# Altium footprint library PcbLib1.PcbLib: 13 footprints
Each footprint in its own frame and in the unit in brackets; x right, y up, seen from the top. Pads: shape width x height; smd on the part's side, far side on the other; paste and mask are expansions set on the pad; w line width, h text height; cw(c..) or ccw(c..) is an arc to the next point about the centre after c.
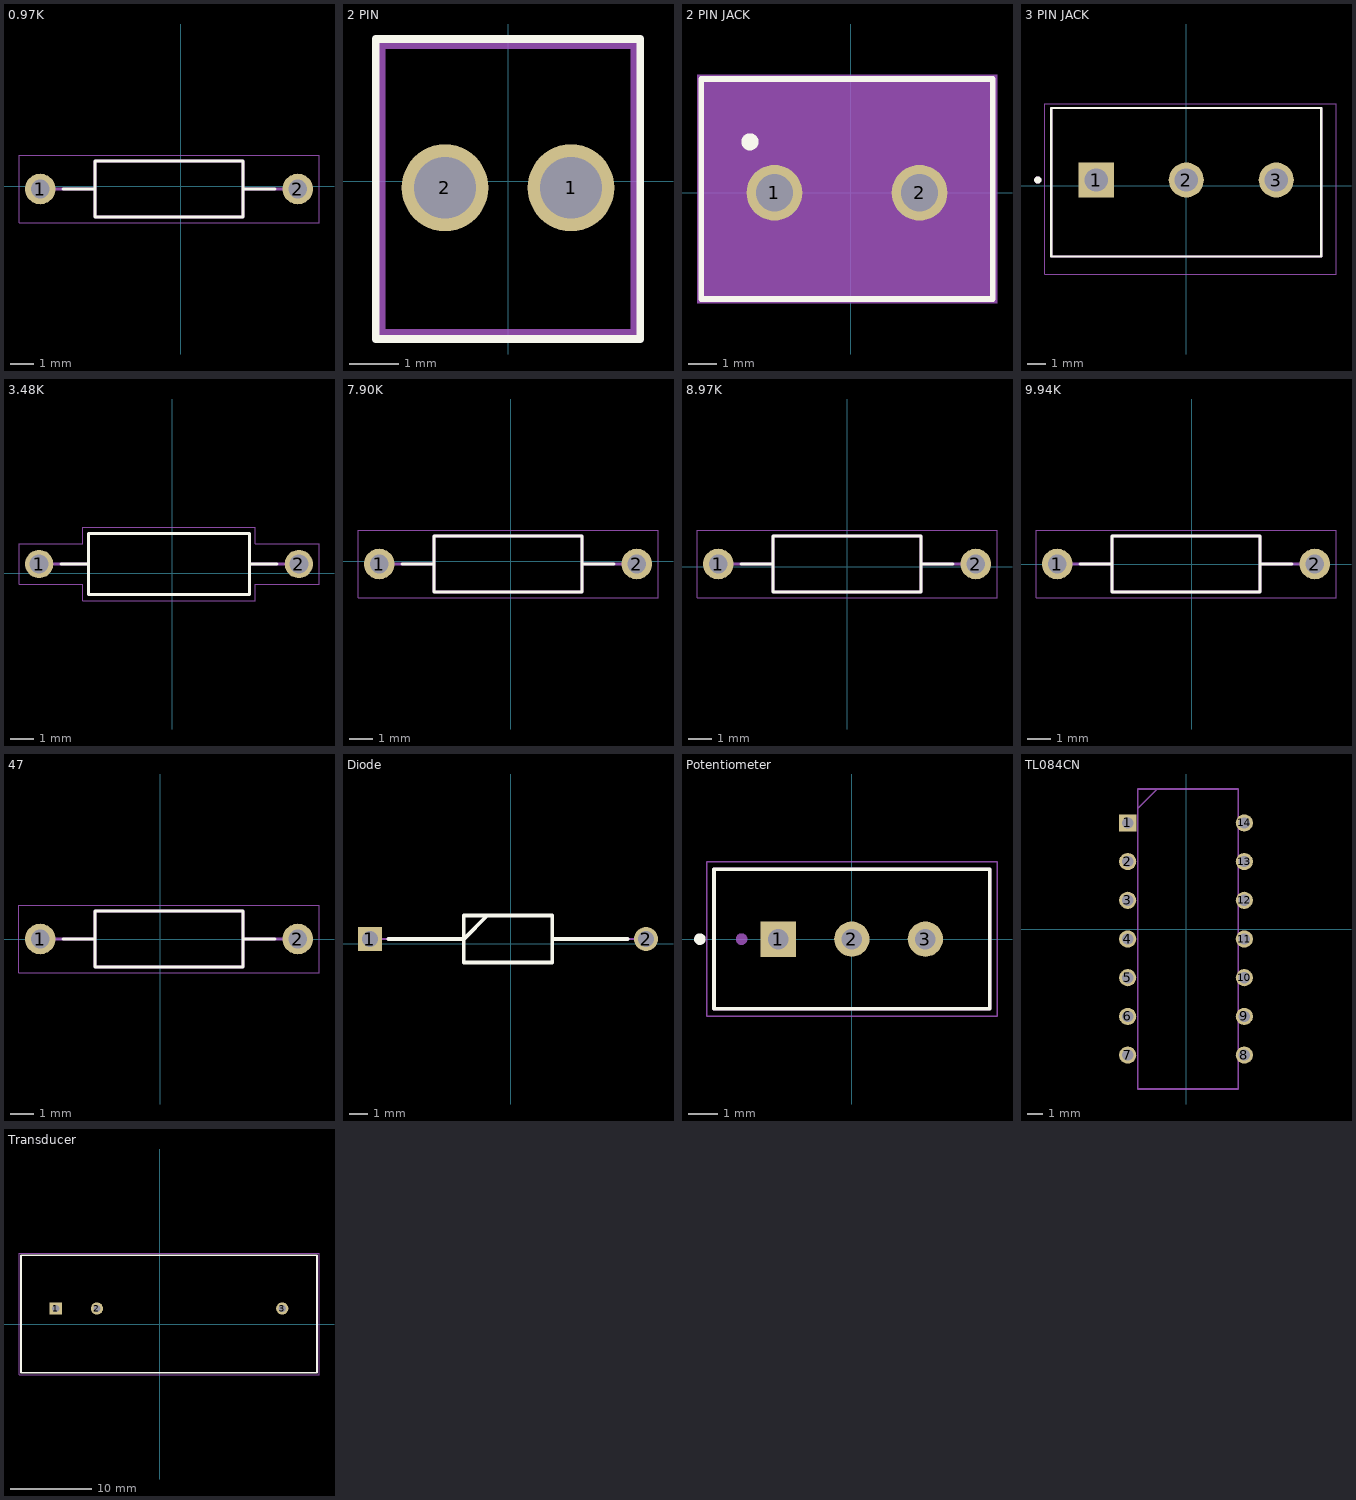
[diagram p0: the footprints below, top view; thin cyan lines are the x and y axes]

## 0.97K [mil]
pads (2):
  round 51.5 hole 31.5: 1(-236.54,-5) 2(196.54,-5)
Top Overlay:
  lines w5: -198.19,-5 -144.02,-5 ; 158.19,-5 104.02,-5 ; -144.02,-5 -144.02,-52.24 104.02,-52.24 104.02,-5 ; -144.02,-5 -144.02,42.24 104.02,42.24 104.02,-5
Mechanical 13:
  lines w5: -236.54,-5 -144.02,-5 ; 196.54,-5 104.02,-5 ; -144.02,-5 -144.02,-52.24 104.02,-52.24 104.02,-5 ; -144.02,-5 -144.02,42.24 104.02,42.24 104.02,-5
Mechanical 15:
  lines w1.97: -272.13,-62.09 232.13,-62.09 232.13,52.09 -272.13,52.09 -272.13,-62.09
3D body "step_temp.STEP": height 94.49, standoff -1061.19, extent -247.36,-52.24 207.36,42.24

## 2 PIN [mil]
pads (2):
  round 69 hole 49 mask+4.02: 1(50,-5) 2(-50,-5)
Top Overlay:
  lines w6: -105,-125 -105,113 105,113 105,-125 -105,-125
Mechanical 13:
  lines w6: -100,-120 -100,108 100,108 100,-120 -100,-120
3D body "22272021--3DModel-STEP-269445.STEP": height 460.63, standoff -140.16, extent -100,-119.96 100,108.39

## 2 PIN JACK [mm]
pads (2):
  round 1.95 hole 1.3: 1(-2.667,0) 2(2.413,0)
Top Overlay:
  circle w0.4: c-3.527,1.781 r0.1
  lines w0.2: -5.227,-3.719 4.973,-3.719 4.973,3.981 -5.227,3.981 -5.227,-3.719
Mechanical 13:
  lines w0.1: -5.127,-3.619 4.873,-3.619 4.873,3.881 -5.127,3.881 -5.127,-3.619
Mechanical 15:
  region: 5.123,-3.869 -5.377,-3.869 -5.377,4.131 5.123,4.131
3D body "step_temp.STEP": height 11.5, standoff -3.6, extent -5.127,-3.556 4.873,3.944

## 3 PIN JACK [mm]
pads (3):
  rect 1.95x1.95 / inner round 1.95 / far side rect 1.95x1.95 hole 1.3: 1(-4.993,0.313)
  round 1.95 hole 1.3: 2(0.007,0.313) 3(5.007,0.313)
Top Overlay:
  circle w0.2: c-8.243,0.313 r0.1
  lines w0.127: -7.493,-3.937 7.507,-3.937 7.507,4.313 -7.493,4.313 -7.493,-3.937
Mechanical 13:
  circle w0.2: c-8.243,0.313 r0.1
  lines w0.127: -7.493,-3.937 7.507,-3.937 7.507,4.313 -7.493,4.313 -7.493,-3.937
Mechanical 15:
  lines w0.05: -7.843,-4.937 -7.843,4.563 8.327,4.563 8.327,-4.937 -7.843,-4.937
3D body "step_temp.STEP": height 11.55, standoff -3.7, extent -7.593,-4.687 8.077,4.313

## 3.48K [mm]
pads (2):
  round 1.2 hole 0.8: 1(-5.627,0.381) 2(5.373,0.381)
Top Overlay:
  lines w0.127: -4.707,0.381 -3.527,0.381 ; 4.453,0.381 3.273,0.381 ; -3.527,0.381 -3.527,-0.919 3.273,-0.919 3.273,0.381 ; -3.527,0.381 -3.527,1.681 3.273,1.681 3.273,0.381
Mechanical 13:
  lines w0.127: -5.027,0.381 -3.527,0.381 ; 4.773,0.381 3.273,0.381 ; -3.527,0.381 -3.527,-0.919 3.273,-0.919 3.273,0.381 ; -3.527,0.381 -3.527,1.681 3.273,1.681 3.273,0.381
Mechanical 15:
  lines w0.05: -6.477,-0.469 -6.477,1.231 -3.777,1.231 -3.777,1.931 3.523,1.931 3.523,1.231 6.223,1.231 6.223,-0.469 3.523,-0.469 3.523,-1.169 -3.777,-1.169 -3.777,-0.469 -6.477,-0.469
3D body "step_temp.STEP": height 2.4, standoff -26.95, extent -5.902,-0.819 5.648,1.581

## 7.90K [mil]
pads (2):
  round 51.5 hole 31.5: 1(-221.54,-5) 2(211.54,-5)
Top Overlay:
  lines w5: -183.19,-5 -129.02,-5 ; 173.19,-5 119.02,-5 ; -129.02,-5 -129.02,42.24 119.02,42.24 119.02,-5 ; -129.02,-5 -129.02,-52.24 119.02,-52.24 119.02,-5
Mechanical 13:
  lines w5: -221.54,-5 -129.02,-5 ; 211.54,-5 119.02,-5 ; -129.02,-5 -129.02,42.24 119.02,42.24 119.02,-5 ; -129.02,-5 -129.02,-52.24 119.02,-52.24 119.02,-5
Mechanical 15:
  lines w1.97: -257.13,-62.09 -257.13,52.09 247.13,52.09 247.13,-62.09 -257.13,-62.09
3D body "step_temp.STEP": height 94.49, standoff -1061.19, extent -232.36,-52.24 222.36,42.24

## 8.97K [mm]
pads (2):
  round 1.308 hole 0.8: 1(-5.5,0.127) 2(5.5,0.127)
Top Overlay:
  lines w0.127: -4.526,0.127 -3.15,0.127 ; 4.526,0.127 3.15,0.127 ; -3.15,0.127 -3.15,1.327 3.15,1.327 3.15,0.127 ; -3.15,0.127 -3.15,-1.073 3.15,-1.073 3.15,0.127
Mechanical 13:
  lines w0.127: -5.5,0.127 -3.15,0.127 ; 5.5,0.127 3.15,0.127 ; -3.15,0.127 -3.15,1.327 3.15,1.327 3.15,0.127 ; -3.15,0.127 -3.15,-1.073 3.15,-1.073 3.15,0.127
Mechanical 15:
  lines w0.05: -6.404,-1.323 -6.404,1.577 6.404,1.577 6.404,-1.323 -6.404,-1.323
3D body "step_temp.STEP": height 2.4, standoff -26.95, extent -5.775,-1.073 5.775,1.327

## 9.94K [mm]
pads (2):
  round 1.308 hole 0.8: 1(-5.754,0) 2(5.246,0)
Top Overlay:
  lines w0.127: -4.78,0 -3.404,0 ; 4.272,0 2.896,0 ; -3.404,0 -3.404,1.2 2.896,1.2 2.896,0 ; -3.404,0 -3.404,-1.2 2.896,-1.2 2.896,0
Mechanical 13:
  lines w0.127: -5.754,0 -3.404,0 ; 5.246,0 2.896,0 ; -3.404,0 -3.404,1.2 2.896,1.2 2.896,0 ; -3.404,0 -3.404,-1.2 2.896,-1.2 2.896,0
Mechanical 15:
  lines w0.05: -6.658,-1.45 -6.658,1.45 6.15,1.45 6.15,-1.45 -6.658,-1.45
3D body "step_temp.STEP": height 2.4, standoff -26.95, extent -6.029,-1.2 5.521,1.2

## 47 [mm]
pads (2):
  round 1.308 hole 0.8: 1(-5.119,0) 2(5.881,0)
Top Overlay:
  lines w0.127: -4.145,0 -2.769,0 ; 4.907,0 3.531,0 ; -2.769,0 -2.769,1.2 3.531,1.2 3.531,0 ; -2.769,0 -2.769,-1.2 3.531,-1.2 3.531,0
Mechanical 13:
  lines w0.127: -5.119,0 -2.769,0 ; 5.881,0 3.531,0 ; -2.769,0 -2.769,1.2 3.531,1.2 3.531,0 ; -2.769,0 -2.769,-1.2 3.531,-1.2 3.531,0
Mechanical 15:
  lines w0.05: -6.023,-1.45 -6.023,1.45 6.785,1.45 6.785,-1.45 -6.023,-1.45
3D body "step_temp.STEP": height 2.4, standoff -26.95, extent -5.394,-1.2 6.156,1.2

## Diode [mm]
pads (2):
  rect 1.275x1.275 / inner round 1.275 / far side rect 1.275x1.275 hole 0.85: 1(-7.493,0.254)
  round 1.275 hole 0.85: 2(7.207,0.254)
Top Overlay:
  lines w0.2: -6.505,0.254 -2.493,0.254 -1.243,1.504 ; 2.207,0.254 6.219,0.254 ; -2.493,-0.996 -2.493,1.504 2.207,1.504 2.207,-0.996 -2.493,-0.996
Mechanical 15:
  lines w0.1: -7.493,0.254 -2.493,0.254 -1.243,1.504 ; 2.207,0.254 7.207,0.254 ; -2.493,-0.996 -2.493,1.504 2.207,1.504 2.207,-0.996 -2.493,-0.996
3D body "1N4007S.stp": height 2.7, standoff -2.7, extent -7.818,-1.086 7.532,1.594

## Potentiometer [mm]
pads (3):
  rect 1.218x1.218 / inner round 1.218 / far side rect 1.218x1.218 hole 0.71: 1(-2.54,0)
  round 1.218 hole 0.71: 2(0,0) 3(2.54,0)
Top Overlay:
  circle w0.2: c-5.25,0 r0.1
  lines w0.127: -4.765,-2.41 -4.765,2.42 4.765,2.42 4.765,-2.41 -4.765,-2.41
Mechanical 13:
  circle w0.2: c-3.81,0 r0.1
  lines w0.127: -4.765,-2.41 4.765,-2.41 4.765,2.42 -4.765,2.42 -4.765,-2.41
Mechanical 15:
  lines w0.05: -5.015,-2.66 5.015,-2.66 5.015,2.67 -5.015,2.67 -5.015,-2.66
3D body "step_temp.STEP": height 11.55, standoff -7.72, extent -4.765,-2.41 4.765,2.42

## TL084CN [mm]
pads (14):
  rect 1.13x1.13 / inner round 1.13 / far side rect 1.13x1.13 hole 0.73: 1(-3.843,6.985)
  round 1.13 hole 0.73: 2(-3.843,4.445) 3(-3.843,1.905) 4(-3.843,-0.635) 5(-3.843,-3.175) 6(-3.843,-5.715) 7(-3.843,-8.255) 8(3.81,-8.255) 9(3.81,-5.715) 10(3.81,-3.175) 11(3.81,-0.635) 12(3.81,1.905) 13(3.81,4.445) 14(3.81,6.985)
Mechanical 15:
  lines w0.1: -3.173,7.94 -1.903,9.21 ; -3.173,-10.48 3.427,-10.48 3.427,9.21 -3.173,9.21 -3.173,-10.48
3D body "TL084CN.stp": height 5.82, standoff -2.55, extent -3.937,-10.477 3.937,9.207

## Transducer [mm]
pads (3):
  rect 1.5x1.5 / inner round 1.5 / far side rect 1.5x1.5 hole 0.9: 1(-12.827,1.945)
  round 1.5 hole 0.9: 2(-7.747,1.945) 3(15.113,1.945)
Top Overlay:
  lines w0.2: -17.107,-5.955 -17.107,8.495 19.393,8.495 19.393,-5.955 -17.107,-5.955
Mechanical 15:
  lines w0.05: -17.357,-6.23 -17.357,8.77 19.643,8.77 19.643,-6.23 -17.357,-6.23
3D body "step_temp.STEP": height 27.2, standoff -4.8, extent -17.157,-5.905 19.443,8.445